# EAGLE library part MAX1921EUT33+T (library MAX1921-3.3)
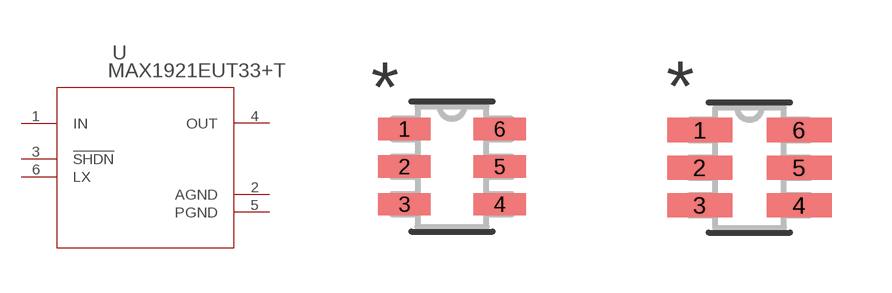
[diagram p0: symbol with the pads of 21-0058I; footprints 21-0058I, 21-0058I-M]

Designator prefix U

## MAX1921EUT33+T (MANUFACTURER_PART_NUMBER: MAX1921EUT33+T; VENDOR: Maxim Integrated Products)  [21-0058I]
1  IN  in
2  AGND  pwr
3  !SHDN  pas
4  OUT  out
5  PGND  pwr
6  LX  pas

## MAX1921EUT33+T21-0058I-M (MANUFACTURER_PART_NUMBER: MAX1921EUT33+T; VENDOR: Maxim Integrated Products)  [21-0058I-M]
Pads as for 21-0058I

## MAX1921EUT33+T21-0058I-L (MANUFACTURER_PART_NUMBER: MAX1921EUT33+T; VENDOR: Maxim Integrated Products)  [21-0058I-L]
Pads as for 21-0058I

## Footprint 21-0058I (pad centres in mm)
smd 1.321 x 0.559: 1 -1.194,0.94; 2 -1.194,0; 3 -1.194,-0.94; 4 1.194,-0.94; 5 1.194,0; 6 1.194,0.94

## Footprint 21-0058I-M (pad centres in mm)
smd 1.626 x 0.61: 1 -1.245,0.94; 2 -1.245,0; 3 -1.245,-0.94; 4 1.245,-0.94; 5 1.245,0; 6 1.245,0.94

## Footprint 21-0058I-L (pad centres in mm)
smd 1.016 x 0.508: 1 -1.143,0.94; 2 -1.143,0; 3 -1.143,-0.94; 4 1.143,-0.94; 5 1.143,0; 6 1.143,0.94